# EAGLE library part MM74HCT32N (library Fairchild_By_element14_Batch_1)
Quad 2-Input OR Gate
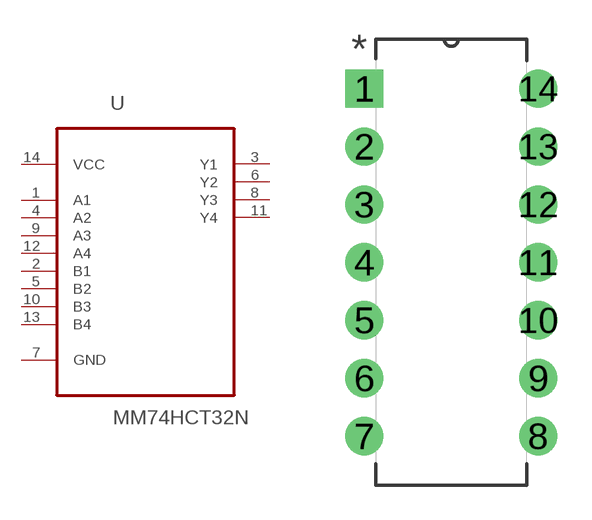
[diagram p327: symbol with the pads of DIP254P762X533-14; footprint DIP254P762X533-14]

Designator prefix U

## MM74HCT32N (MPN: MM74HCT32N; OC_FARNELL: 1013995; OC_NEWARK: -; PACKAGE: PDIP-14; SUPPLIER: Fairchild)  [DIP254P762X533-14]
1  A1  in
2  B1  in
3  Y1  out
4  A2  in
5  B2  in
6  Y2  out
7  GND  pas
8  Y3  out
9  A3  in
10  B3  in
11  Y4  out
12  A4  in
13  B4  in
14  VCC  pwr

## Footprint DIP254P762X533-14 (pad centres in mm)
drill 1.118 square: 1 -7.62,15.24
drill 1.118: 2 -7.62,12.7; 3 -7.62,10.16; 4 -7.62,7.62; 5 -7.62,5.08; 6 -7.62,2.54; 7 -7.62,0; 8 0,0; 9 0,2.54; 10 0,5.08; 11 0,7.62; 12 0,10.16; 13 0,12.7; 14 0,15.24